# Altium schematic symbol library MHPC1x11.SchLib: 1 symbol
Pins are listed as number, name and electrical type; pins without a type are passive.

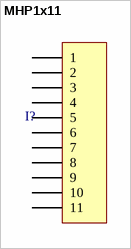
[diagram p0: symbol MHP1x11]

## MHP1x11
designator I?  (value not drawn)
footprint MHP_1x11_
pins: 1, 2, 3, 4, 5, 6, 7, 8, 9, 10, 11